# Altium schematic symbol library CONN_5P.Schlib: 1 symbol
Pins are listed as number, name and electrical type; pins without a type are passive.

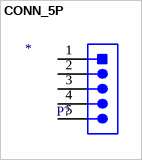
[diagram p0: symbol CONN_5P]

## CONN_5P
designator P?
Value: *
pins: 1, 2, 3, 4, 5